# Altium footprint library SWD_PROBE.PcbLib: 1 footprints
Each footprint in its own frame and in the unit in brackets; x right, y up, seen from the top. Pads: shape width x height; smd on the part's side, far side on the other; paste and mask are expansions set on the pad; w line width, h text height; cw(c..) or ccw(c..) is an arc to the next point about the centre after c.
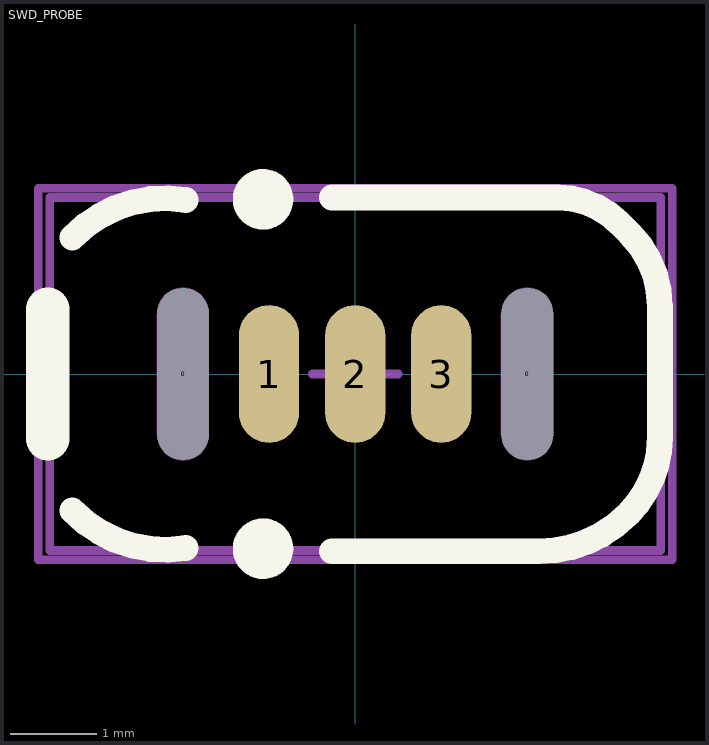
[diagram p0: the footprint, top view; thin cyan lines are the x and y axes]

## SWD_PROBE [mm]
pads (5):
  round 0.1 hole 0.6 slot 2 at 90 deg unplated: 0(-2,0) 0(2,0)
  oval 0.7x1.6 smd paste-0.5: 1(-1,0) 2(0,0) 3(1,0)
Top Overlay:
  circle w0.4: c-1.07,-2.03 r0.152
  circle w0.4: c-1.07,2.03 r0.152
  lines w0.3: -3.287,-1.586 ccw(c-2.21,-0.542) -1.968,-2.022 ; -3.287,1.586 cw(c-2.21,0.542) -1.968,2.022 ; -0.27,-2.06 2.132,-2.06 ccw(c2.132,-0.592) 3.17,-1.63 ccw(c2.277,-0.737) 3.54,-0.737 3.54,0.79 ccw(c2.357,0.79) 3.194,1.626 3.06,1.76 ccw(c2.36,1.06) 2.36,2.05 -0.27,2.05
  lines w0.508: -3.57,-0.75 -3.57,0.75
Keep-Out Layer:
  lines w0.01: -2,1 ccw(c-2,0.7) -2.3,0.7 -2.3,0 -2.3,-0.7 ccw(c-2,-0.7) -2,-1 ccw(c-2,-0.7) -1.7,-0.7 -1.7,0.7 ccw(c-2,0.7) -2,1 ; -2,1 -2,1 ; 1.7,-0.7 ccw(c2,-0.7) 2,-1 ccw(c2,-0.7) 2.3,-0.7 2.3,0.7 ccw(c2,0.7) 2,1 ccw(c2,0.7) 1.7,0.7 1.7,0 1.7,-0.7
Mechanical 13:
  lines w0.1: -3.55,-2.05 -3.55,2.05 3.55,2.05 3.55,-2.05 -3.55,-2.05
Mechanical 15:
  lines w0.1: -0.5,0 0.5,0 ; 0,-0.5 0,0.5 ; -3.683,-2.159 3.683,-2.159 3.683,2.159 -3.683,2.159 -3.683,-2.159